# EAGLE library part TPS55160QPWPTQ1 (library TPS55160QPWPTQ1)
3.6V to 36V, 1A output, 2MHz, synchronous buck-boost converter, AEC-Q100 qualified Source: Datasheet <http://www.ti.com/lit/gpn/TPS55160-Q1>
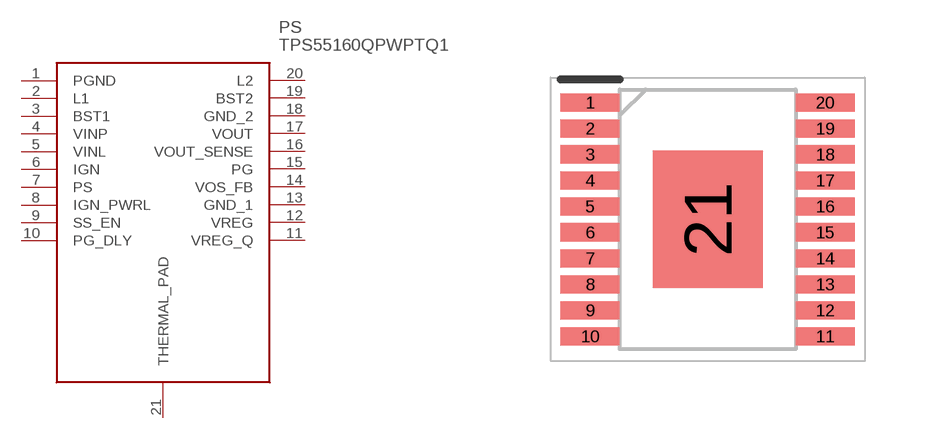
[diagram p0: symbol with the pads of SOP65P640X120-21N; footprint SOP65P640X120-21N]

Designator prefix PS

## TPS55160QPWPTQ1 (DESCRIPTION: 3.6V to 36V, 1A output, 2MHz, synchronous buck-boost converter, AEC-Q100 qualified; HEIGHT: 1.2mm; MANUFACTURER_NAME: Texas Instruments; MANUFACTURER_PART_NUMBER: TPS55160QPWPTQ1)  [SOP65P640X120-21N]
1  PGND  pwr
2  L1  pwr
3  BST1  pwr
4  VINP  pwr
5  VINL  pwr
6  IGN  in
7  PS  in
8  IGN_PWRL  in
9  SS_EN  in
10  PG_DLY  in
11  VREG_Q  in
12  VREG  out
13  GND_1  pwr
14  VOS_FB  in
15  PG  out
16  VOUT_SENSE  in
17  VOUT  pwr
18  GND_2  pwr
19  BST2  pwr
20  L2  pwr
21  THERMAL_PAD

## Footprint SOP65P640X120-21N (pad centres in mm)
HTSSOP
smd 1.475 x 0.45: 1 -2.938,2.925; 2 -2.938,2.275; 3 -2.938,1.625; 4 -2.938,0.975; 5 -2.938,0.325; 6 -2.938,-0.325; 7 -2.938,-0.975; 8 -2.938,-1.625; 9 -2.938,-2.275; 10 -2.938,-2.925; 11 2.938,-2.925; 12 2.938,-2.275; 13 2.938,-1.625; 14 2.938,-0.975; 15 2.938,-0.325; 16 2.938,0.325; 17 2.938,0.975; 18 2.938,1.625; 19 2.938,2.275; 20 2.938,2.925
smd 2.75 x 3.43: 21 0,0